# Altium footprint library 2020-02-10_00-18-24.PcbLib: 3 footprints
Each footprint in its own frame and in the unit in brackets; x right, y up, seen from the top. Pads: shape width x height; smd on the part's side, far side on the other; paste and mask are expansions set on the pad; w line width, h text height; cw(c..) or ccw(c..) is an arc to the next point about the centre after c.
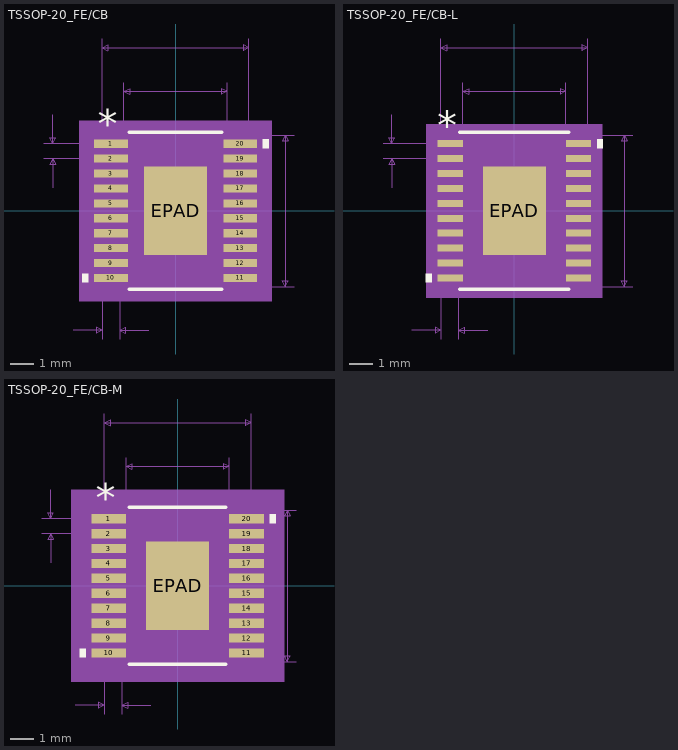
[diagram p0: the footprints below, top view; thin cyan lines are the x and y axes]

## TSSOP-20_FE/CB [mil]
pads (21):
  rect 58x14 smd paste+0 mask+0: 1(-111,115.2) 2(-111,89.6) 3(-111,64) 4(-111,38.4) 5(-111,12.8) 6(-111,-12.8) 7(-111,-38.4) 8(-111,-64) 9(-111,-89.6) 10(-111,-115.2) 11(111,-115.2) 12(111,-89.6) 13(111,-64) 14(111,-38.4) 15(111,-12.8) 16(111,12.8) 17(111,38.4) 18(111,64) 19(111,89.6) 20(111,115.2)
  rect 108x152 smd paste-75.5 mask+0: EPAD(0,0)
Top Overlay:
  region: -150,-107.7 -160,-107.7 -160,-122.7 -150,-122.7
  region: 150,122.7 160,122.7 160,107.7 150,107.7
  lines w6: -79.21,-135 79.21,-135 ; -79.21,135 79.21,135
  text "*" at -133.5,124.2 h50
Top Paste:
  region: -3.94,72.06 -50.06,72.06 -50.06,29.27 -3.94,29.27
  region: -3.94,21.4 -50.06,21.4 -50.06,-21.4 -3.94,-21.4
  region: -3.94,-29.27 -50.06,-29.27 -50.06,-72.06 -3.94,-72.06
  region: 50.06,72.06 3.94,72.06 3.94,29.27 50.06,29.27
  region: 50.06,21.4 3.94,21.4 3.94,-21.4 50.06,-21.4
  region: 50.06,-29.27 3.94,-29.27 3.94,-72.06 50.06,-72.06
Mechanical 5:
  region: 165,-155 -165,-155 -165,155 165,155
Mechanical 7:
  lines w1: -226,89.6 -111,89.6 ; -226,115.2 -111,115.2 ; -211,39.6 -211,89.6 ; -211,165.2 -211,115.2 ; -176,-205 -126,-205 ; -126,-220 -126,0 -126,295 ; -96,-220 -96,0 ; -88.5,0 -88.5,220 ; -46,-205 -96,-205 ; 0,-130 203.5,-130 ; 0,130 203.5,130 ; 88.5,0 88.5,220 ; 126,0 126,295 ; -211,89.6 -216,79.6 -206,79.6 -211,89.6 ; -211,115.2 -216,125.2 -206,125.2 -211,115.2 ; -126,-205 -136,-200 -136,-210 -126,-205 ; -126,280 126,280 ; -126,280 -116,285 -116,275 -126,280 ; -96,-205 -86,-200 -86,-210 -96,-205 ; -88.5,205 88.5,205 ; -88.5,205 -78.5,210 -78.5,200 -88.5,205 ; 88.5,205 78.5,210 78.5,200 88.5,205 ; 126,280 116,285 116,275 126,280 ; 188.5,-130 188.5,130 ; 188.5,-130 183.5,-120 193.5,-120 188.5,-130 ; 188.5,130 183.5,120 193.5,120 188.5,130
  text "Default Padstyle: RX58Y14D0T" at -350,-330 h50
  text "Pin One Padstyle: RX58Y14D0T" at -350,-390 h50
  text "Heat Tab Padstyle: RX108Y152D0T" at -387.5,-450 h50
  text "Alt 1 Padstyle: OX60Y90D30P" at -337.5,-570 h50
  text "Alt 2 Padstyle: OX90Y60D30P" at -337.5,-630 h50
  text "0.177in/4.496mm" at -93.75,225 h25
  text "0.252in/6.401mm" at -93.75,300 h25
  text "0.26in/6.604mm" at 208.5,-12.5 h25
  text "0.026in/0.65mm" at -406,89.9 h25
  text "0.03in/0.762mm" at -198.5,-250 h25
Mechanical 13:
  lines w0: -12,130 ccw(c0,130) 12,130
  lines w1: -126,-121.2 -126,-109.2 -88.5,-109.2 -88.5,-121.2 -126,-121.2 ; -126,-95.6 -126,-83.6 -88.5,-83.6 -88.5,-95.6 -126,-95.6 ; -126,-70 -126,-58 -88.5,-58 -88.5,-70 -126,-70 ; -126,-44.4 -126,-32.4 -88.5,-32.4 -88.5,-44.4 -126,-44.4 ; -126,-18.8 -126,-6.8 -88.5,-6.8 -88.5,-18.8 -126,-18.8 ; -126,6.8 -126,18.8 -88.5,18.8 -88.5,6.8 -126,6.8 ; -126,32.4 -126,44.4 -88.5,44.4 -88.5,32.4 -126,32.4 ; -126,58 -126,70 -88.5,70 -88.5,58 -126,58 ; -126,83.6 -126,95.6 -88.5,95.6 -88.5,83.6 -126,83.6 ; -126,109.2 -126,121.2 -88.5,121.2 -88.5,109.2 -126,109.2 ; -88.5,-130 88.5,-130 88.5,130 -88.5,130 -88.5,-130 ; 88.5,-121.2 88.5,-109.2 126,-109.2 126,-121.2 88.5,-121.2 ; 88.5,-95.6 88.5,-83.6 126,-83.6 126,-95.6 88.5,-95.6 ; 88.5,-70 88.5,-58 126,-58 126,-70 88.5,-70 ; 88.5,-44.4 88.5,-32.4 126,-32.4 126,-44.4 88.5,-44.4 ; 88.5,-18.8 88.5,-6.8 126,-6.8 126,-18.8 88.5,-18.8 ; 88.5,6.8 88.5,18.8 126,18.8 126,6.8 88.5,6.8 ; 88.5,32.4 88.5,44.4 126,44.4 126,32.4 88.5,32.4 ; 88.5,58 88.5,70 126,70 126,58 88.5,58 ; 88.5,83.6 88.5,95.6 126,95.6 126,83.6 88.5,83.6 ; 88.5,109.2 88.5,121.2 126,121.2 126,109.2 88.5,109.2
  text "*" at -86,77 h50
Mechanical 15:
  region: -98.5,-132.2 -150,-132.2 -150,132.2 -98.5,132.2 -98.5,140 98.5,140 98.5,132.2 150,132.2 150,-132.2 98.5,-132.2 98.5,-140 -98.5,-140
  lines w6: -150,-132.2 -150,132.2 -98.5,132.2 -98.5,140 98.5,140 98.5,132.2 150,132.2 150,-132.2 98.5,-132.2 98.5,-140 -98.5,-140 -98.5,-132.2 -150,-132.2
3D body: height 10, standoff 0, extent 0,0 10,10

## TSSOP-20_FE/CB-L [mil]
pads (21):
  rect 43.5x12 smd paste+0 mask+0: 1(-110.25,115.2) 2(-110.25,89.6) 3(-110.25,64) 4(-110.25,38.4) 5(-110.25,12.8) 6(-110.25,-12.8) 7(-110.25,-38.4) 8(-110.25,-64) 9(-110.25,-89.6) 10(-110.25,-115.2) 11(110.25,-115.2) 12(110.25,-89.6) 13(110.25,-64) 14(110.25,-38.4) 15(110.25,-12.8) 16(110.25,12.8) 17(110.25,38.4) 18(110.25,64) 19(110.25,89.6) 20(110.25,115.2)
  rect 108x152 smd paste-75.5 mask+0: EPAD(0,0)
Top Overlay:
  region: -142,-107.7 -152,-107.7 -152,-122.7 -142,-122.7
  region: 142,122.7 152,122.7 152,107.7 142,107.7
  lines w6: -93.5,-135 93.5,-135 ; -93.5,135 93.5,135
  text "*" at -132.75,122.2 h50
Top Paste:
  region: -3.94,72.06 -50.06,72.06 -50.06,29.27 -3.94,29.27
  region: -3.94,21.4 -50.06,21.4 -50.06,-21.4 -3.94,-21.4
  region: -3.94,-29.27 -50.06,-29.27 -50.06,-72.06 -3.94,-72.06
  region: 50.06,72.06 3.94,72.06 3.94,29.27 50.06,29.27
  region: 50.06,21.4 3.94,21.4 3.94,-21.4 50.06,-21.4
  region: 50.06,-29.27 3.94,-29.27 3.94,-72.06 50.06,-72.06
Mechanical 5:
  region: 151,-149 -151,-149 -151,149 151,149
Mechanical 7:
  lines w1: -225.25,89.6 -110.25,89.6 ; -225.25,115.2 -110.25,115.2 ; -210.25,39.6 -210.25,89.6 ; -210.25,165.2 -210.25,115.2 ; -176,-205 -126,-205 ; -126,-220 -126,0 -126,295 ; -96,-220 -96,0 ; -88.5,0 -88.5,220 ; -46,-205 -96,-205 ; 0,-130 203.5,-130 ; 0,130 203.5,130 ; 88.5,0 88.5,220 ; 126,0 126,295 ; -210.25,89.6 -215.25,79.6 -205.25,79.6 -210.25,89.6 ; -210.25,115.2 -215.25,125.2 -205.25,125.2 -210.25,115.2 ; -126,-205 -136,-200 -136,-210 -126,-205 ; -126,280 126,280 ; -126,280 -116,285 -116,275 -126,280 ; -96,-205 -86,-200 -86,-210 -96,-205 ; -88.5,205 88.5,205 ; -88.5,205 -78.5,210 -78.5,200 -88.5,205 ; 88.5,205 78.5,210 78.5,200 88.5,205 ; 126,280 116,285 116,275 126,280 ; 188.5,-130 188.5,130 ; 188.5,-130 183.5,-120 193.5,-120 188.5,-130 ; 188.5,130 183.5,120 193.5,120 188.5,130
  text "Default Padstyle: RX43p5Y12D0T" at -375,-330 h50
  text "Pin One Padstyle: RX43p5Y12D0T" at -375,-390 h50
  text "Heat Tab Padstyle: RX108Y152D0T" at -387.5,-450 h50
  text "Alt 1 Padstyle: OX60Y90D30P" at -337.5,-570 h50
  text "Alt 2 Padstyle: OX90Y60D30P" at -337.5,-630 h50
  text "0.177in/4.496mm" at -93.75,225 h25
  text "0.252in/6.401mm" at -93.75,300 h25
  text "0.26in/6.604mm" at 208.5,-12.5 h25
  text "0.026in/0.65mm" at -405.25,89.9 h25
  text "0.03in/0.762mm" at -198.5,-250 h25
Mechanical 13:
  lines w0: -12,130 ccw(c0,130) 12,130
  lines w1: -126,-121.2 -126,-109.2 -88.5,-109.2 -88.5,-121.2 -126,-121.2 ; -126,-95.6 -126,-83.6 -88.5,-83.6 -88.5,-95.6 -126,-95.6 ; -126,-70 -126,-58 -88.5,-58 -88.5,-70 -126,-70 ; -126,-44.4 -126,-32.4 -88.5,-32.4 -88.5,-44.4 -126,-44.4 ; -126,-18.8 -126,-6.8 -88.5,-6.8 -88.5,-18.8 -126,-18.8 ; -126,6.8 -126,18.8 -88.5,18.8 -88.5,6.8 -126,6.8 ; -126,32.4 -126,44.4 -88.5,44.4 -88.5,32.4 -126,32.4 ; -126,58 -126,70 -88.5,70 -88.5,58 -126,58 ; -126,83.6 -126,95.6 -88.5,95.6 -88.5,83.6 -126,83.6 ; -126,109.2 -126,121.2 -88.5,121.2 -88.5,109.2 -126,109.2 ; -88.5,-130 88.5,-130 88.5,130 -88.5,130 -88.5,-130 ; 88.5,-121.2 88.5,-109.2 126,-109.2 126,-121.2 88.5,-121.2 ; 88.5,-95.6 88.5,-83.6 126,-83.6 126,-95.6 88.5,-95.6 ; 88.5,-70 88.5,-58 126,-58 126,-70 88.5,-70 ; 88.5,-44.4 88.5,-32.4 126,-32.4 126,-44.4 88.5,-44.4 ; 88.5,-18.8 88.5,-6.8 126,-6.8 126,-18.8 88.5,-18.8 ; 88.5,6.8 88.5,18.8 126,18.8 126,6.8 88.5,6.8 ; 88.5,32.4 88.5,44.4 126,44.4 126,32.4 88.5,32.4 ; 88.5,58 88.5,70 126,70 126,58 88.5,58 ; 88.5,83.6 88.5,95.6 126,95.6 126,83.6 88.5,83.6 ; 88.5,109.2 88.5,121.2 126,121.2 126,109.2 88.5,109.2
  text "*" at -86,77 h50
Mechanical 15:
  region: -92.5,-125.2 -136,-125.2 -136,125.2 -92.5,125.2 -92.5,134 92.5,134 92.5,125.2 136,125.2 136,-125.2 92.5,-125.2 92.5,-134 -92.5,-134
  lines w6: -136,-125.2 -136,125.2 -92.5,125.2 -92.5,134 92.5,134 92.5,125.2 136,125.2 136,-125.2 92.5,-125.2 92.5,-134 -92.5,-134 -92.5,-125.2 -136,-125.2
3D body: height 10, standoff 0, extent 0,0 10,10

## TSSOP-20_FE/CB-M [mil]
pads (21):
  rect 59.5x16 smd paste+0 mask+0: 1(-118.25,115.2) 2(-118.25,89.6) 3(-118.25,64) 4(-118.25,38.4) 5(-118.25,12.8) 6(-118.25,-12.8) 7(-118.25,-38.4) 8(-118.25,-64) 9(-118.25,-89.6) 10(-118.25,-115.2) 11(118.25,-115.2) 12(118.25,-89.6) 13(118.25,-64) 14(118.25,-38.4) 15(118.25,-12.8) 16(118.25,12.8) 17(118.25,38.4) 18(118.25,64) 19(118.25,89.6) 20(118.25,115.2)
  rect 108x152 smd paste-75.5 mask+0: EPAD(0,0)
Top Overlay:
  region: -158,-107.7 -168,-107.7 -168,-122.7 -158,-122.7
  region: 158,122.7 168,122.7 168,107.7 158,107.7
  lines w6: -82.81,-135 82.81,-135 ; -82.81,135 82.81,135
  text "*" at -140.75,126.2 h50
Top Paste:
  region: -3.94,72.06 -50.06,72.06 -50.06,29.27 -3.94,29.27
  region: -3.94,21.4 -50.06,21.4 -50.06,-21.4 -3.94,-21.4
  region: -3.94,-29.27 -50.06,-29.27 -50.06,-72.06 -3.94,-72.06
  region: 50.06,72.06 3.94,72.06 3.94,29.27 50.06,29.27
  region: 50.06,21.4 3.94,21.4 3.94,-21.4 50.06,-21.4
  region: 50.06,-29.27 3.94,-29.27 3.94,-72.06 50.06,-72.06
Mechanical 5:
  region: 183,-165 -183,-165 -183,165 183,165
Mechanical 7:
  lines w1: -233.25,89.6 -118.25,89.6 ; -233.25,115.2 -118.25,115.2 ; -218.25,39.6 -218.25,89.6 ; -218.25,165.2 -218.25,115.2 ; -176,-205 -126,-205 ; -126,-220 -126,0 -126,295 ; -96,-220 -96,0 ; -88.5,0 -88.5,220 ; -46,-205 -96,-205 ; 0,-130 203.5,-130 ; 0,130 203.5,130 ; 88.5,0 88.5,220 ; 126,0 126,295 ; -218.25,89.6 -223.25,79.6 -213.25,79.6 -218.25,89.6 ; -218.25,115.2 -223.25,125.2 -213.25,125.2 -218.25,115.2 ; -126,-205 -136,-200 -136,-210 -126,-205 ; -126,280 126,280 ; -126,280 -116,285 -116,275 -126,280 ; -96,-205 -86,-200 -86,-210 -96,-205 ; -88.5,205 88.5,205 ; -88.5,205 -78.5,210 -78.5,200 -88.5,205 ; 88.5,205 78.5,210 78.5,200 88.5,205 ; 126,280 116,285 116,275 126,280 ; 188.5,-130 188.5,130 ; 188.5,-130 183.5,-120 193.5,-120 188.5,-130 ; 188.5,130 183.5,120 193.5,120 188.5,130
  text "Default Padstyle: RX59p5Y16D0T" at -375,-330 h50
  text "Pin One Padstyle: RX59p5Y16D0T" at -375,-390 h50
  text "Heat Tab Padstyle: RX108Y152D0T" at -387.5,-450 h50
  text "Alt 1 Padstyle: OX60Y90D30P" at -337.5,-570 h50
  text "Alt 2 Padstyle: OX90Y60D30P" at -337.5,-630 h50
  text "0.177in/4.496mm" at -93.75,225 h25
  text "0.252in/6.401mm" at -93.75,300 h25
  text "0.26in/6.604mm" at 208.5,-12.5 h25
  text "0.026in/0.65mm" at -413.25,89.9 h25
  text "0.03in/0.762mm" at -198.5,-250 h25
Mechanical 13:
  lines w0: -12,130 ccw(c0,130) 12,130
  lines w1: -126,-121.2 -126,-109.2 -88.5,-109.2 -88.5,-121.2 -126,-121.2 ; -126,-95.6 -126,-83.6 -88.5,-83.6 -88.5,-95.6 -126,-95.6 ; -126,-70 -126,-58 -88.5,-58 -88.5,-70 -126,-70 ; -126,-44.4 -126,-32.4 -88.5,-32.4 -88.5,-44.4 -126,-44.4 ; -126,-18.8 -126,-6.8 -88.5,-6.8 -88.5,-18.8 -126,-18.8 ; -126,6.8 -126,18.8 -88.5,18.8 -88.5,6.8 -126,6.8 ; -126,32.4 -126,44.4 -88.5,44.4 -88.5,32.4 -126,32.4 ; -126,58 -126,70 -88.5,70 -88.5,58 -126,58 ; -126,83.6 -126,95.6 -88.5,95.6 -88.5,83.6 -126,83.6 ; -126,109.2 -126,121.2 -88.5,121.2 -88.5,109.2 -126,109.2 ; -88.5,-130 88.5,-130 88.5,130 -88.5,130 -88.5,-130 ; 88.5,-121.2 88.5,-109.2 126,-109.2 126,-121.2 88.5,-121.2 ; 88.5,-95.6 88.5,-83.6 126,-83.6 126,-95.6 88.5,-95.6 ; 88.5,-70 88.5,-58 126,-58 126,-70 88.5,-70 ; 88.5,-44.4 88.5,-32.4 126,-32.4 126,-44.4 88.5,-44.4 ; 88.5,-18.8 88.5,-6.8 126,-6.8 126,-18.8 88.5,-18.8 ; 88.5,6.8 88.5,18.8 126,18.8 126,6.8 88.5,6.8 ; 88.5,32.4 88.5,44.4 126,44.4 126,32.4 88.5,32.4 ; 88.5,58 88.5,70 126,70 126,58 88.5,58 ; 88.5,83.6 88.5,95.6 126,95.6 126,83.6 88.5,83.6 ; 88.5,109.2 88.5,121.2 126,121.2 126,109.2 88.5,109.2
  text "*" at -86,77 h50
Mechanical 15:
  region: -108.5,-143.2 -168,-143.2 -168,143.2 -108.5,143.2 -108.5,150 108.5,150 108.5,143.2 168,143.2 168,-143.2 108.5,-143.2 108.5,-150 -108.5,-150
  lines w6: -168,-143.2 -168,143.2 -108.5,143.2 -108.5,150 108.5,150 108.5,143.2 168,143.2 168,-143.2 108.5,-143.2 108.5,-150 -108.5,-150 -108.5,-143.2 -168,-143.2
3D body: height 10, standoff 0, extent 0,0 10,10